# Altium schematic symbol library BK-912-TR.SchLib: 1 symbol
Pins are listed as number, name and electrical type; pins without a type are passive.

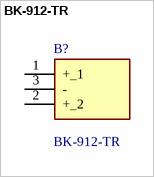
[diagram p0: symbol BK-912-TR]

## BK-912-TR
designator B?
BATTERY RETAINER COIN 20MM SMD; Manufacturer_Name: Memory Protection Devices; Geometry.Height: 4.32mm; Manufacturer_Part_Number: BK-912-TR; Mouser Part Number: *; Mouser Price/Stock: *; Arrow Part Number: *; Arrow Price/Stock: *; Datasheet Link: https://www.memoryprotectiondevices.com/datasheets/BK-912-datasheet.pdf
footprint BK912TR
pins: 1 +_1, 2 +_2, 3 -